# Altium footprint library SOT223-5.PcbLib: 1 footprints
Each footprint in its own frame and in the unit in brackets; x right, y up, seen from the top. Pads: shape width x height; smd on the part's side, far side on the other; paste and mask are expansions set on the pad; w line width, h text height; cw(c..) or ccw(c..) is an arc to the next point about the centre after c.
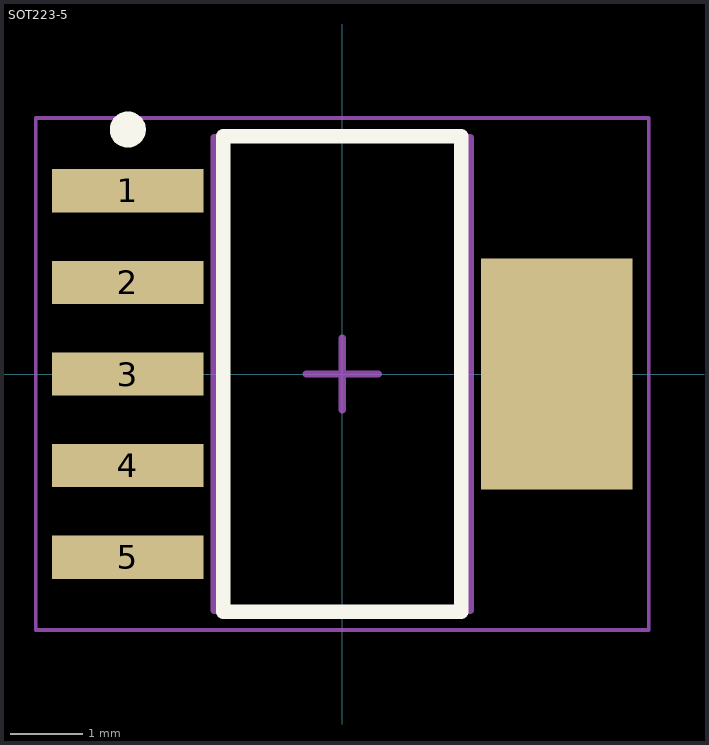
[diagram p0: the footprint, top view; thin cyan lines are the x and y axes]

## SOT223-5 [mm] "SOT223-5 TPS7A45 Low-dropout regulator"
height 1.8
pads (6):
  rect 2.1x0.6 smd: 1(-2.975,2.54) 2(-2.975,1.27) 3(-2.975,0) 4(-2.975,-1.27) 5(-2.975,-2.54)
  rect 2.1x3.2 smd: ""(2.975,0)
Top Overlay:
  circle w0.25: c-2.975,3.39 r0.125
  lines w0.2: -1.65,-3.3 1.65,-3.3 1.65,3.3 -1.65,3.3 -1.65,-3.3
Mechanical 13:
  lines w0.1: -1.775,-3.275 1.775,-3.275 1.775,3.275 -1.775,3.275 -1.775,-3.275
Mechanical 15:
  lines w0.05: -4.25,-3.55 4.25,-3.55 4.25,3.55 -4.25,3.55 -4.25,-3.55
  lines w0.1: -0.5,0 0.5,0 ; 0,-0.5 0,0.5
3D body: height 1.8, standoff 0.02, extent -1.775,-3.275 1.775,3.275